# Altium schematic symbol library Ferrite,470R@100MHz,0603.Schlib: 1 symbol
Pins are listed as number, name and electrical type; pins without a type are passive.

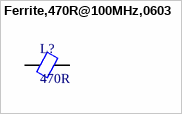
[diagram p0: symbol Ferrite,470R@100MHz,0603]

## Ferrite,470R@100MHz,0603
designator L?, comment 470R
FERRITE BEAD 470 OHM 0603 1LN
pins: 1, 2